# EAGLE library part 6180XX231421_618025231421 (library Wurth_Connectors_WR-DSUB)
WR-DSUB 10.30 mm Male Angled PCB Connector w. Hex Screw Kind Properties Quality Class:3 as per CECC 75 301-802 Gender:Male Type:Angled Insulator Material:PBT Insulator Flammability Rating:UL94 V-0 Color:Black Contact Material:Copper Alloy Contact Plating:Selective Gold Contact Type:Stamped Shielding Material:Steel Shielding Plating:Nickel General Information Operating Temperature:-55 up to +105 °C Compliance:RoHS Electrical Properties IR1:3 A Working Voltage:125 V (AC) Withstanding Voltage:1000 V (AC) Contact Resistance:30 mΩ <https://www.we-online.com/catalog/media/o60849v209%20Family_I-O_DSUB_PCB_Male_w-screw_6180xx231421_pf2.jpg> Details see: https://www.we-online.com/en/components/products/DSUB_MALE_ANGLED_PCB_CONNECTOR_W_HEX_SCREW_10_30MM_6180XX231421 Updated by Ella Wu 2023-03-21 2023 (C) Würth Elektronik
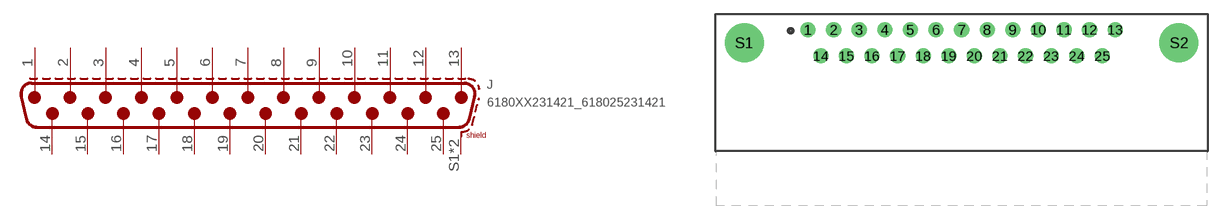
[diagram p40: symbol with the pads of 618025231421; footprint 618025231421]

Designator prefix J

## 6180XX231421_618025231421 (DATASHEET-URL: https://www.we-online.com/redexpert/spec/618025231421?ae; GENDER: Male; PART-NUMBER: 618025231421; PINS: 25; TYPE: Angled; VALUE: 618025231421; WE-NUMBER: 618025231421; WORKING-VOLTAGE: 125 V(AC))  [618025231421]
1  1
2  2
3  3
4  4
5  5
6  6
7  7
8  8
9  9
10  10
11  11
12  12
13  13
14  14
15  15
16  16
17  17
18  18
19  19
20  20
21  21
22  22
23  23
24  24
25  25
S1  SHIELD
S2  SHIELD

## Footprint 618025231421 (pad centres in mm)
WR-DSUB 10.3mm Male Angled PCB Connector with Hex Screw, 25 Pins
drill 1.09: 1 -16.62,8.715; 2 -13.85,8.715; 3 -11.08,8.715; 4 -8.31,8.715; 5 -5.54,8.715; 6 -2.77,8.715; 7 0,8.715; 8 2.77,8.715; 9 5.54,8.715; 10 8.31,8.715; 11 11.08,8.715; 12 13.85,8.715; 13 16.62,8.715; 14 -15.235,5.875; 15 -12.465,5.875; 16 -9.695,5.875; 17 -6.925,5.875; 18 -4.155,5.875; 19 -1.385,5.875; 20 1.385,5.875; 21 4.155,5.875; 22 6.925,5.875; 23 9.695,5.875; 24 12.465,5.875; 25 15.235,5.875
drill 3.2: S1 -23.52,7.295; S2 23.52,7.295